# Altium footprint library DIODE_AXIAL_0.3_A2C1.PcbLib: 1 footprints
Each footprint in its own frame and in the unit in brackets; x right, y up, seen from the top. Pads: shape width x height; smd on the part's side, far side on the other; paste and mask are expansions set on the pad; w line width, h text height; cw(c..) or ccw(c..) is an arc to the next point about the centre after c.
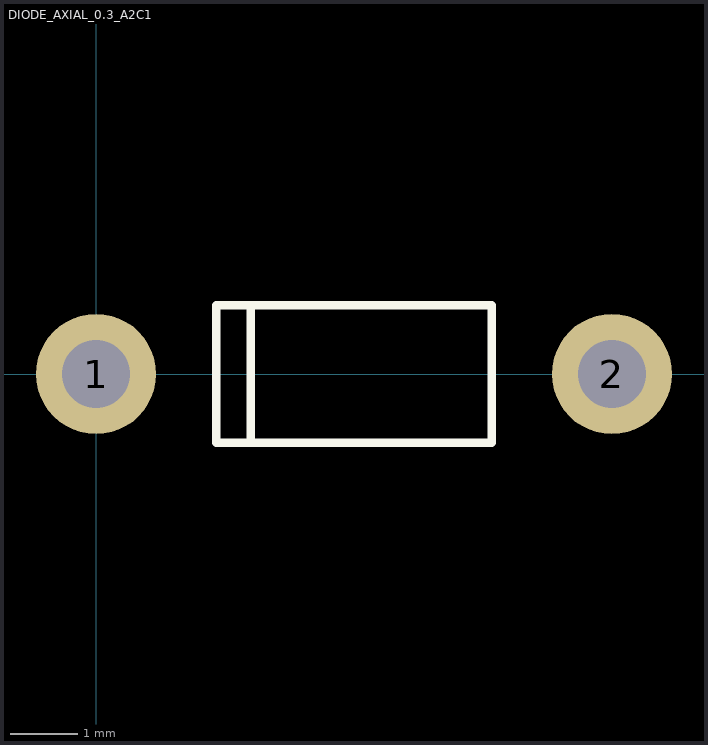
[diagram p0: the footprint, top view; thin cyan lines are the x and y axes]

## DIODE_AXIAL_0.3_A2C1 [mil] "Axial Diode, 0.3\" spacing"
pads (2):
  round 70 hole 39.37: 1(0,0) 2(300,0)
Top Overlay:
  lines w5: 90,-40 90,40 ; 70,-40 230,-40 230,40 70,40 70,-40